# Altium schematic symbol library LDO.SchLib: 1 symbol
Pins are listed as number, name and electrical type; pins without a type are passive.

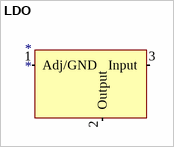
[diagram p0: symbol LDO]

## LDO
designator *
1.0 A Low Dropout Positive and Adjustable Voltage Regulator
pins: 1 Adj/GND (in), 2 Output (in), 3 Input (in)